# Altium footprint library SC_SDIP8.PcbLib: 1 footprints
Each footprint in its own frame and in the unit in brackets; x right, y up, seen from the top. Pads: shape width x height; smd on the part's side, far side on the other; paste and mask are expansions set on the pad; w line width, h text height; cw(c..) or ccw(c..) is an arc to the next point about the centre after c.
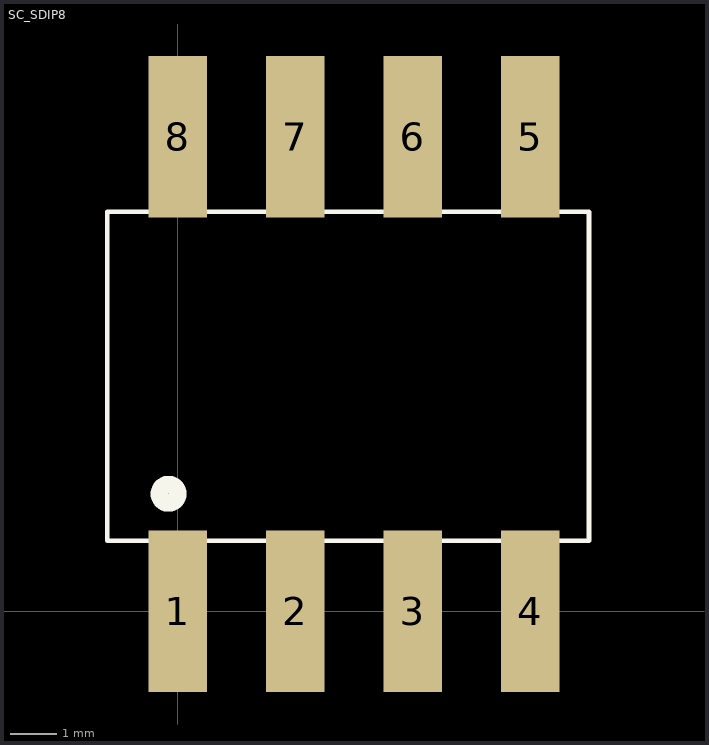
[diagram p0: the footprint, top view; thin cyan lines are the x and y axes]

## SC_SDIP8 [mm]
pads (8):
  rect 1.27x3.5 smd: 1(0,0) 2(2.54,0) 3(5.08,0) 4(7.62,0) 5(7.62,10.26) 6(5.08,10.26) 7(2.54,10.26) 8(0,10.26)
Top Overlay:
  circle w0.38: c-0.198,2.54 r0.198
  lines w0.102: -1.524,1.524 -1.524,8.636 8.89,8.636 8.89,1.524 -1.524,1.524